# EAGLE library part BLUETOOTH-SERIAL (library moudle)
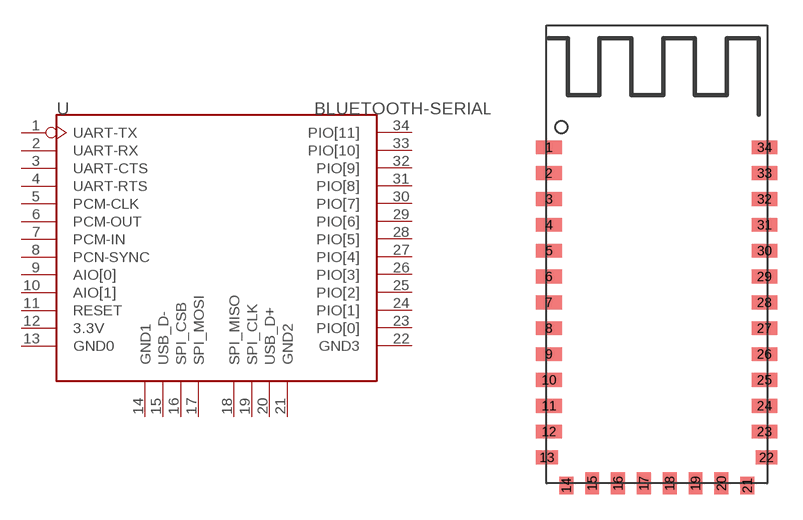
[diagram p3: symbol with the pads of 34P-1.524-27X13-W/-ANT; footprint 34P-1.524-27X13-W/-ANT]

Designator prefix U

## BLUETOOTH-SERIAL-SMD  [34P-1.524-27X13-W/-ANT]
1  UART-TX
2  UART-RX
3  UART-CTS
4  UART-RTS
5  PCM-CLK
6  PCM-OUT
7  PCM-IN
8  PCN-SYNC
9  AIO[0]
10  AIO[1]
11  RESET
12  3.3V
13  GND0
14  GND1
15  USB_D-
16  SPI_CSB
17  SPI_MOSI
18  SPI_MISO
19  SPI_CLK
20  USB_D+
21  GND2
22  GND3
23  PIO[0]
24  PIO[1]
25  PIO[2]
26  PIO[3]
27  PIO[4]
28  PIO[5]
29  PIO[6]
30  PIO[7]
31  PIO[8]
32  PIO[9]
33  PIO[10]
34  PIO[11]

## Footprint 34P-1.524-27X13-W/-ANT (pad centres in mm)
smd 1.524 x 0.813: 1 -6.35,19.812; 2 -6.35,18.288; 3 -6.35,16.764; 4 -6.35,15.24; 5 -6.35,13.716; 6 -6.35,12.192; 7 -6.35,10.668; 8 -6.35,9.144; 9 -6.35,7.62; 10 -6.35,6.096; 11 -6.35,4.572; 12 -6.35,3.048; 23 6.35,3.048; 24 6.35,4.572; 25 6.35,6.096; 26 6.35,7.62; 27 6.35,9.144; 28 6.35,10.668; 29 6.35,12.192; 30 6.35,13.716; 31 6.35,15.24; 32 6.35,16.764; 33 6.35,18.288; 34 6.35,19.812
smd 1.27 x 0.813: 13 -6.477,1.524; 22 6.477,1.524
smd 0.813 x 1.016: 14 -5.334,-0.127; 21 5.334,-0.127
smd 0.813 x 1.27: 15 -3.81,0; 16 -2.286,0; 17 -0.762,0; 18 0.762,0; 19 2.286,0; 20 3.81,0